# Altium footprint library Connectivity.PcbLib: 1 footprints
Each footprint in its own frame and in the unit in brackets; x right, y up, seen from the top. Pads: shape width x height; smd on the part's side, far side on the other; paste and mask are expansions set on the pad; w line width, h text height; cw(c..) or ccw(c..) is an arc to the next point about the centre after c.
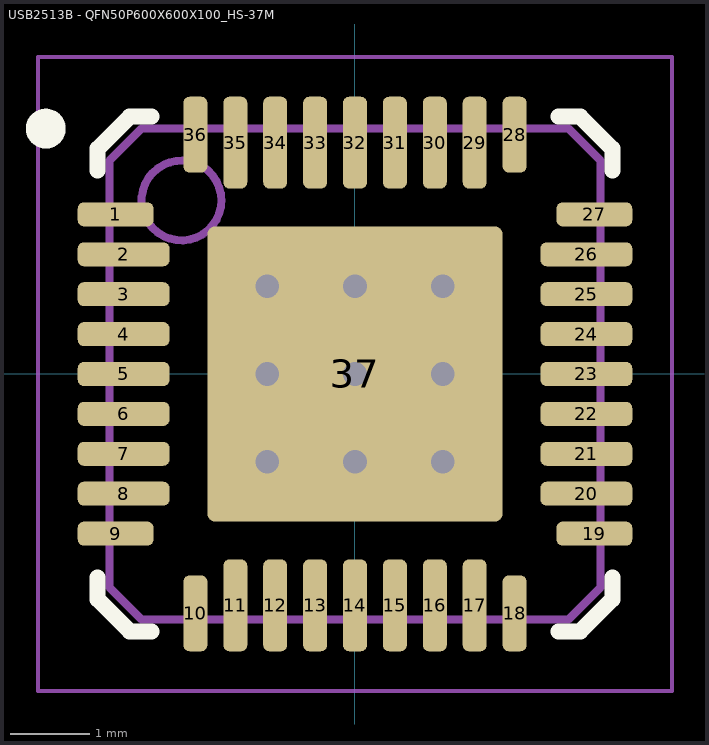
[diagram p0: the footprint, top view; thin cyan lines are the x and y axes]

## USB2513B - QFN50P600X600X100_HS-37M [mm] "QFN, 36-Leads, Body 6.00x6.00mm, Pitch 0.50mm, Thermal Pad 3.70x3.70mm, IPC Low Density"
height 1
pads (37):
  rrect50% 0.95x0.3 smd paste-0.05 mask+0.048: 1(-3,2) 9(-3,-2) 19(3,-2) 27(3,2)
  rrect50% 1.15x0.3 smd paste-0.05 mask+0.048: 2(-2.9,1.5) 3(-2.9,1) 4(-2.9,0.5) 5(-2.9,0) 6(-2.9,-0.5) 7(-2.9,-1) 8(-2.9,-1.5) 20(2.9,-1.5) 21(2.9,-1) 22(2.9,-0.5) 23(2.9,0) 24(2.9,0.5) 25(2.9,1) 26(2.9,1.5)
  rrect50% 0.3x0.95 smd paste-0.05 mask+0.048: 10(-2,-3) 18(2,-3) 28(2,3) 36(-2,3)
  rrect50% 0.3x1.15 smd paste-0.05 mask+0.048: 11(-1.5,-2.9) 12(-1,-2.9) 13(-0.5,-2.9) 14(0,-2.9) 15(0.5,-2.9) 16(1,-2.9) 17(1.5,-2.9) 29(1.5,2.9) 30(1,2.9) 31(0.5,2.9) 32(0,2.9) 33(-0.5,2.9) 34(-1,2.9) 35(-1.5,2.9)
  rrect5% 3.7x3.7 smd paste-0.3 mask+0.048: 37(0,0)
via 1.1,-1.1 diameter 0.6 hole 0.3
via 0,-1.1 diameter 0.6 hole 0.3
via -1.1,-1.1 diameter 0.6 hole 0.3
via 1.1,0 diameter 0.6 hole 0.3
via 0,0 diameter 0.6 hole 0.3
via -1.1,0 diameter 0.6 hole 0.3
via 1.1,1.1 diameter 0.6 hole 0.3
via 0,1.1 diameter 0.6 hole 0.3
via -1.1,1.1 diameter 0.6 hole 0.3
Top Overlay:
  circle w0.25: c-3.875,3.075 r0.125
  lines w0.2: -3.225,-2.55 -3.225,-2.825 -2.825,-3.225 -2.55,-3.225 ; -3.225,2.55 -3.225,2.825 -2.825,3.225 -2.55,3.225 ; 2.55,-3.225 2.825,-3.225 3.225,-2.825 3.225,-2.55 ; 2.55,3.225 2.825,3.225 3.225,2.825 3.225,2.55
Mechanical 13:
  circle w0.1: c-2.175,2.175 r0.5
  lines w0.1: -3.075,-2.675 -3.075,2.675 -2.675,3.075 2.675,3.075 3.075,2.675 3.075,-2.675 2.675,-3.075 -2.675,-3.075 -3.075,-2.675
Mechanical 15:
  lines w0.05: -3.975,-3.975 3.975,-3.975 3.975,3.975 -3.975,3.975 -3.975,-3.975
  lines w0.1: -0.5,0 0.5,0 ; 0,-0.5 0,0.5
3D body: height 1, standoff 0.02, extent -3.075,-3.075 3.075,3.075